# Altium footprint library COMP_MCP6541RT-E&slash_OT.PcbLib: 3 footprints
Each footprint in its own frame and in the unit in brackets; x right, y up, seen from the top. Pads: shape width x height; smd on the part's side, far side on the other; paste and mask are expansions set on the pad; w line width, h text height; cw(c..) or ccw(c..) is an arc to the next point about the centre after c.
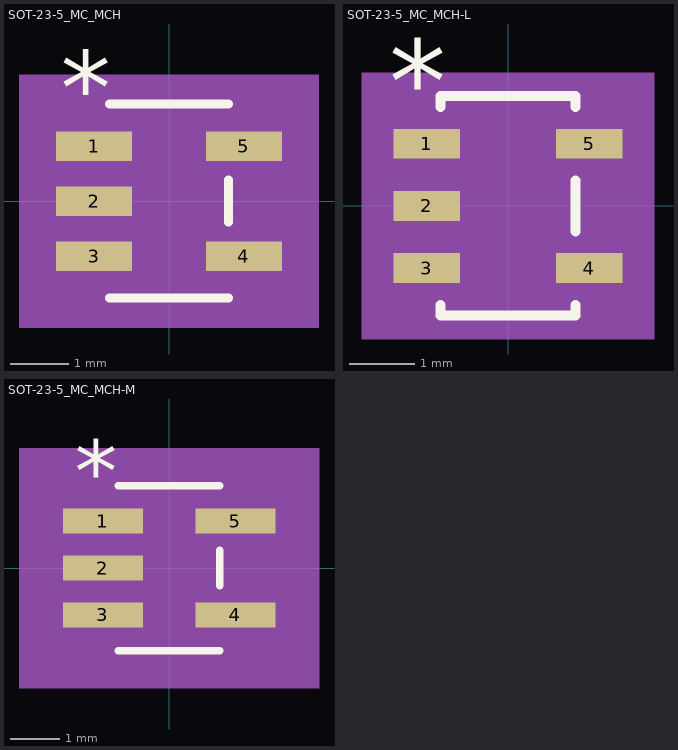
[diagram p0: the footprints below, top view; thin cyan lines are the x and y axes]

## SOT-23-5_MC_MCH [mil]
pads (5):
  rect 52x20 smd paste+0 mask+0: 1(-51,37.4) 2(-51,0) 3(-51,-37.4) 4(51,-37.4) 5(51,37.4)
Top Overlay:
  lines w6: -40.5,-66 40.5,-66 ; -40.5,66 40.5,66 ; 40.5,-14.3 40.5,14.3
  text "*" at -73.5,52.4 h50
Mechanical 5:
  region: 102,-86 -102,-86 -102,86 102,86
Mechanical 13:
  lines w0: -12,61 ccw(c0,61) 12,61
  lines w1: -63,-47.4 -63,-27.4 -35.5,-27.4 -35.5,-47.4 -63,-47.4 ; -63,-10 -63,10 -35.5,10 -35.5,-10 -63,-10 ; -63,27.4 -63,47.4 -35.5,47.4 -35.5,27.4 -63,27.4 ; -35.5,-61 35.5,-61 35.5,61 -35.5,61 -35.5,-61 ; 35.5,-47.4 35.5,-27.4 63,-27.4 63,-47.4 35.5,-47.4 ; 35.5,27.4 35.5,47.4 63,47.4 63,27.4 35.5,27.4
  text "*" at -38,14.4 h50
Mechanical 15:
  region: 45.5,-71 -45.5,-71 -45.5,-57.4 -87,-57.4 -87,57.4 -45.5,57.4 -45.5,71 45.5,71 45.5,57.4 87,57.4 87,-57.4 45.5,-57.4
  lines w6: -87,-57.4 -45.5,-57.4 -45.5,-71 45.5,-71 45.5,-57.4 87,-57.4 87,57.4 45.5,57.4 45.5,71 -45.5,71 -45.5,57.4 -87,57.4 -87,-57.4
3D body "SOT-23-5_MC_MCH.step": height 57.09, standoff 0, extent -62.99,-60.98 62.99,60.98

## SOT-23-5_MC_MCH-L [mil]
pads (5):
  rect 40x18 smd paste+0 mask+0: 1(-49,37.4) 2(-49,0) 3(-49,-37.4) 4(49,-37.4) 5(49,37.4)
Top Overlay:
  lines w6: -40.5,-59.5 -40.5,-66 40.5,-66 40.5,-59.5 ; -40.5,59.5 -40.5,66 40.5,66 40.5,59.5 ; 40.5,-15.3 40.5,15.3
  text "*" at -71.5,50.4 h50
Mechanical 5:
  region: 88,-80 -88,-80 -88,80 88,80
Mechanical 13:
  lines w0: -12,61 ccw(c0,61) 12,61
  lines w1: -63,-47.4 -63,-27.4 -35.5,-27.4 -35.5,-47.4 -63,-47.4 ; -63,-10 -63,10 -35.5,10 -35.5,-10 -63,-10 ; -63,27.4 -63,47.4 -35.5,47.4 -35.5,27.4 -63,27.4 ; -35.5,-61 35.5,-61 35.5,61 -35.5,61 -35.5,-61 ; 35.5,-47.4 35.5,-27.4 63,-27.4 63,-47.4 35.5,-47.4 ; 35.5,27.4 35.5,47.4 63,47.4 63,27.4 35.5,27.4
  text "*" at -38,12.4 h50
Mechanical 15:
  region: 39.5,-65 -39.5,-65 -39.5,-50.4 -73,-50.4 -73,50.4 -39.5,50.4 -39.5,65 39.5,65 39.5,50.4 73,50.4 73,-50.4 39.5,-50.4
  lines w6: -73,-50.4 -39.5,-50.4 -39.5,-65 39.5,-65 39.5,-50.4 73,-50.4 73,50.4 39.5,50.4 39.5,65 -39.5,65 -39.5,50.4 -73,50.4 -73,-50.4
3D body "SOT-23-5_MC_MCH.step": height 57.09, standoff 0, extent -62.99,-60.98 62.99,60.98

## SOT-23-5_MC_MCH-M [mil]
pads (5):
  rect 64x20 smd paste+0 mask+0: 1(-53,37.4) 2(-53,0) 3(-53,-37.4) 4(53,-37.4) 5(53,37.4)
Top Overlay:
  lines w6: -40.5,-66 40.5,-66 ; -40.5,66 40.5,66 ; 40.5,-14.3 40.5,14.3
  text "*" at -75.5,52.4 h50
Mechanical 5:
  region: 120,-96 -120,-96 -120,96 120,96
Mechanical 13:
  lines w0: -12,61 ccw(c0,61) 12,61
  lines w1: -63,-47.4 -63,-27.4 -35.5,-27.4 -35.5,-47.4 -63,-47.4 ; -63,-10 -63,10 -35.5,10 -35.5,-10 -63,-10 ; -63,27.4 -63,47.4 -35.5,47.4 -35.5,27.4 -63,27.4 ; -35.5,-61 35.5,-61 35.5,61 -35.5,61 -35.5,-61 ; 35.5,-47.4 35.5,-27.4 63,-27.4 63,-47.4 35.5,-47.4 ; 35.5,27.4 35.5,47.4 63,47.4 63,27.4 35.5,27.4
  text "*" at -38,14.4 h50
Mechanical 15:
  region: 55.5,-81 -55.5,-81 -55.5,-67.4 -105,-67.4 -105,67.4 -55.5,67.4 -55.5,81 55.5,81 55.5,67.4 105,67.4 105,-67.4 55.5,-67.4
  lines w6: -105,-67.4 -55.5,-67.4 -55.5,-81 55.5,-81 55.5,-67.4 105,-67.4 105,67.4 55.5,67.4 55.5,81 -55.5,81 -55.5,67.4 -105,67.4 -105,-67.4
3D body "SOT-23-5_MC_MCH.step": height 57.09, standoff 0, extent -62.99,-60.98 62.99,60.98